# EAGLE library part BUCHSENLEISTE-6 (library iceberg20)
6-polige Buchsenleiste, 2,54mm Rastermaß Datenblatt: Link <https://www.buerklin.com/medias/sys_master/root/h3c/h63/8867656630302/8867656630302.pdf>
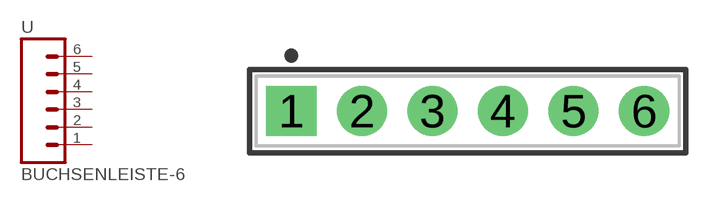
[diagram p3: symbol with the pads of 6X1; footprint 6X1]

Designator prefix -

## BUCHSENLEISTE-6 (BESTAND: ?; HERSTELLER: AMP; HERSTELLER-NR: 59F5634; SUPPLIER: Bürklin; SUPPLIER-NR: -)  [6X1]
1  1  pas
2  2  pas
3  3  pas
4  4  pas
5  5  pas
6  6  pas

## Footprint 6X1 (pad centres in mm)
Single-row, 6-pin Receptacle Header (Female) Straight, 2.54 mm (0.10 in) col pitch, 7.00 mm insulator length, 15.24 X 2.52 X 7.00 mm body Single-row (1X6), 6-pin Receptacle Header (Female) Straight package with 2.54 mm (0.10 in) col pitch, 1.00 mm lead width, 3.00 mm tail length and 7.00 mm insulator length with overall size 15.24 X 2.52 X 7.00 mm, pin pattern - clockwise from top left
drill 1.2 square: 1 0,0
drill 1.2: 2 2.54,0; 3 5.08,0; 4 7.62,0; 5 10.16,0; 6 12.7,0